# EAGLE library part WR_FPC_0.5MM_8P_H (library Micromirror_Ampli_PCB)
FFC & FPC Connectors WR-FPC 0.5mm, Wurth Electronics, 8P, horizontal, Mouser : 710-68710814522
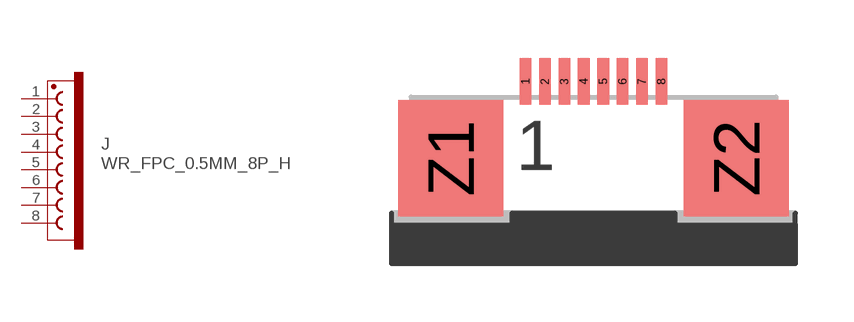
[diagram p8: symbol with the pads of WR_FPC_0.5MM_8P_H; footprint WR_FPC_0.5MM_8P_H]

Designator prefix J

## WR_FPC_0.5MM_8P_H (BRAND: Wurth Electronics; CURRENT_RATING: 50 mA; FARNELL: 1641914; FFC_FPC_CABLE_200MM_SAME_SIDE_CONTACT: Mouser : 710-687608200002; HOUSING_MATERIAL: Liquid Crystal Polymer (LCP); INSULATION_RESISTANCE: 100 MOhms; MFR_NO: 68710814522; MOUNTING_ANGLE: Horizontal; MOUSER: 710-68710814522; NUMBER_OF_POSITION: 8; OPERATING_TEMPERATURE: -25 to +85°C; PITCH: 0.5 mm)  [WR_FPC_0.5MM_8P_H]
1  1  pas
2  2  pas
3  3  pas
4  4  pas
5  5  pas
6  6  pas
7  7  pas
8  8  pas

## Footprint WR_FPC_0.5MM_8P_H (pad centres in mm)
FFC & FPC Connectors WR-FPC 0.5mm, horizontal (l x p x h / 10,4 x 4,3 x 2.1mm)
smd 0.3 x 1.2: 1 -1.75,0.6; 2 -1.25,0.6; 3 -0.75,0.6; 4 -0.25,0.6; 5 0.25,0.6; 6 0.75,0.6; 7 1.25,0.6; 8 1.75,0.6
smd 2.7 x 3: Z1 -3.68,-1.38; Z2 3.68,-1.38